# Altium schematic symbol library rev02_1.SCHLIB: 50 symbols
Pins are listed as number, name and electrical type; pins without a type are passive.

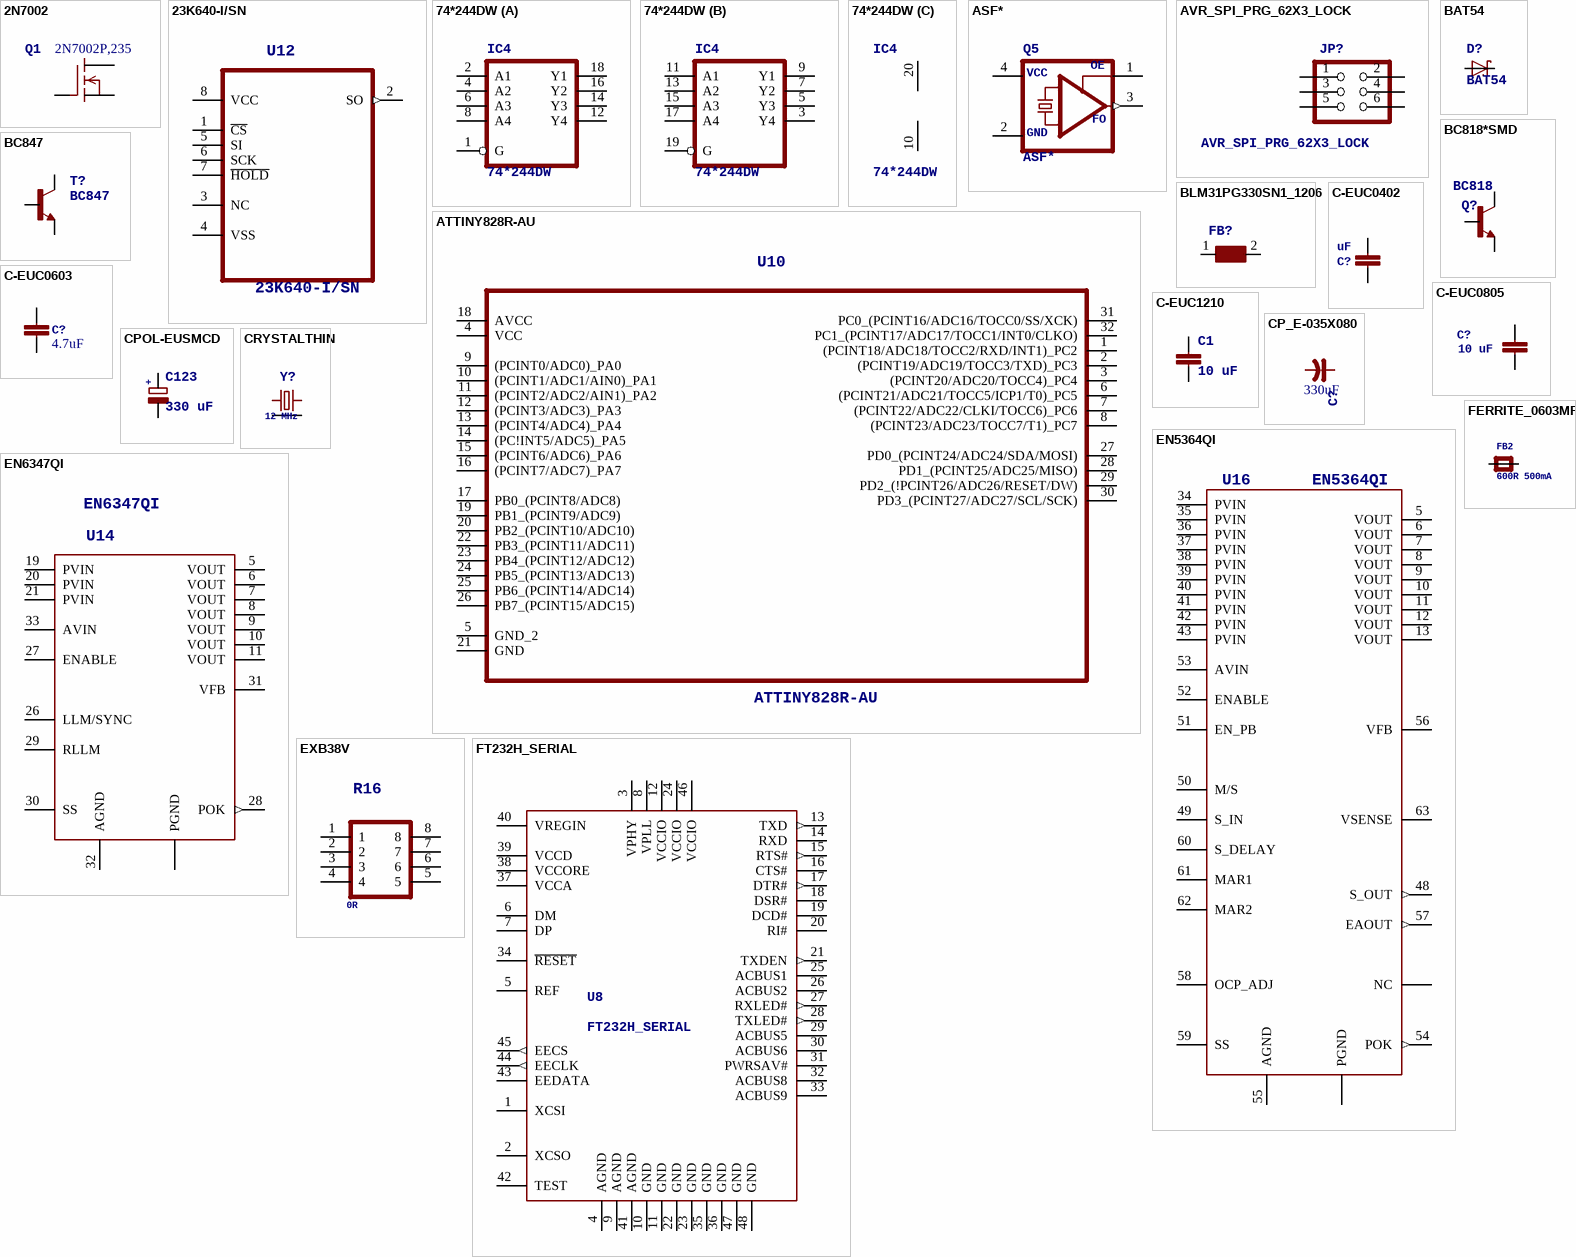
[diagram p0: symbols 2N7002 to FT232H_SERIAL]

## 2N7002
designator Q?, comment 2N7002P,235  >NAME: Q1
OnSemi FET; >VALUE: 2N7002
footprint SOT23
pins: 1 G, 2 S, 3 D

## 23K640-I/SN
designator U?  >NAME: U12  (hidden comment: 23K640-I/SN)
64K SPI Bus Low-Power Serial SRAM,SOIC-8; MPN: 23K640-I/SN; OC_FARNELL: 1695549; OC_NEWARK: 71P4706; PACKAGE: SOIC-8; SUPPLIER: MICROCHIP; >VALUE: 23K640-I/SN
footprint SOIC127P600X175-8N
pins: 1 ~{CS}, 2 SO (out), 3 NC, 4 VSS (power), 5 SI, 6 SCK, 7 ~{HOLD}, 8 VCC (power)

## 74*244DW
designator IC?  >NAME: IC4  (hidden comment: 74*244DW)
Octal <b>BUFFER</b> and <b>LINE DRIVER</b>, 3-state; >VALUE: 74*244DW
footprint SO20W
footprint SO20W
footprint SO20W
part A pins: 1 G, 2 A1, 4 A2, 6 A3, 8 A4, 12 Y4 (hiz), 14 Y3 (hiz), 16 Y2 (hiz), 18 Y1 (hiz)
part B pins: 3 Y4 (hiz), 5 Y3 (hiz), 7 Y2 (hiz), 9 Y1 (hiz), 11 A1, 13 A2, 15 A3, 17 A4, 19 G
part C pins: 10 GND (power), 20 VCC (power)

## ASF*
designator Q?  >NAME: Q5  (hidden comment: ASF*)
<b>CRYSTAL CLOCK OSCILLATORS</b><p> / 5.0 Vdc or 3.3 Vdc - LOW PROFILE ULTRA MINIATURE CERAMIC SURFACE MOUNT<br> / Source: http://www.abracon.com/Oscillators/asf1-L-L1.pdf; MPN: ASFL1-125.000MHZ-EC-T; MF: Abracon Corporation; OC_FARNELL: 1838931; OC_NEWARK: 19M1882; >VALUE: ASF*; GND: GND; VCC: VCC; FO: FO; OE: OE
footprint ASF
pins: 1 OE, 2 GND (power), 3 FO (out), 4 VCC (power)

## ATTINY828R-AU
designator U?  >NAME: U10  (hidden comment: ATTINY828R-AU)
IC, MCU, 8KB, FLASH, 20MHZ, TQFP-32; MPN: ATTINY828R-AU; OC_FARNELL: 2249850; OC_NEWARK: Unknown; PACKAGE: TQFP-32; SUPPLIER: ATMEL; >VALUE: ATTINY828R-AU
footprint QFP80P900X900X120-32N
pins: 1 (PCINT18/ADC18/TOCC2/RXD/INT1)_PC2, 2 (PCINT19/ADC19/TOCC3/TXD)_PC3, 3 (PCINT20/ADC20/TOCC4)_PC4, 4 VCC (power), 5 GND_2, 6 (PCINT21/ADC21/TOCC5/ICP1/T0)_PC5, 7 (PCINT22/ADC22/CLKI/TOCC6)_PC6, 8 (PCINT23/ADC23/TOCC7/T1)_PC7, 9 (PCINT0/ADC0)_PA0, 10 (PCINT1/ADC1/AIN0)_PA1, 11 (PCINT2/ADC2/AIN1)_PA2, 12 (PCINT3/ADC3)_PA3, 13 (PCINT4/ADC4)_PA4, 14 (PC!INT5/ADC5)_PA5, 15 (PCINT6/ADC6)_PA6, 16 (PCINT7/ADC7)_PA7, 17 PB0_(PCINT8/ADC8), 18 AVCC (power), 19 PB1_(PCINT9/ADC9), 20 PB2_(PCINT10/ADC10), 21 GND, 22 PB3_(PCINT11/ADC11), 23 PB4_(PCINT12/ADC12), 24 PB5_(PCINT13/ADC13), 25 PB6_(PCINT14/ADC14), 26 PB7_(PCINT15/ADC15), 27 PD0_(PCINT24/ADC24/SDA/MOSI), 28 PD1_(PCINT25/ADC25/MISO), 29 PD2_(!PCINT26/ADC26/RESET/DW), 30 PD3_(PCINT27/ADC27/SCL/SCK), 31 PC0_(PCINT16/ADC16/TOCC0/SS/XCK), 32 PC1_(PCINT17/ADC17/TOCC1/INT0/CLKO)

## AVR_SPI_PRG_62X3_LOCK
designator JP?
<b>AVR ISP 6 Pin</b> / This is the reduced ISP connector for AVR programming. Common on Arduino. This footprint will take up less PCB space and can be used with a 10-pin to 6-pin adapter such as SKU: BOB-08508 / <b>**Special note about "TEST_POINT" package.</b> The stop mask is on the top side, so if you want your programming test points to be on the bottom of your board, make sure to place this package on the bottom side of the board. This also ensure that the orientation to program from the bottom side will be correct.
footprint 2X3_LOCK
pins: 1, 2, 3, 4, 5, 6

## BAT54
designator D?
<b>Schottky Diodes</b><p> / Source: Fairchild .. BAT54.pdf
footprint SOT23
pins: 1 A, 3 C

## BC818*SMD
designator Q?, comment BC818
<b>NPN Transistor</b>
footprint SOT-23
pins: 1 B, 2 E, 3 C

## BC847
designator T?
<b>NPN TRANSISTOR</b>
footprint SOT23
pins: 1 B, 2 E, 3 C

## BLM31PG330SN1_1206
designator FB?, comment 0  (value not drawn)
footprint 1206
pins: 1, 2

## C-EUC0402
designator C?, comment 0.01 uF
<B>CAPACITOR</B>, European symbol
footprint C0402
pins: 1, 2

## C-EUC0603
designator C?, comment value 4.7uF  (hidden comment: TMK212AB7475KG-T)
0805 CAPACITOR X7R 25V
pins: 1, 2

## C-EUC0805
designator C?, comment 10 uF
<B>CAPACITOR</B>, European symbol
footprint C0805
pins: 1, 2

## C-EUC1210
designator C?, comment >NAME: C1  (hidden comment: 10 uF)
<B>CAPACITOR</B>, European symbol; DIELECTRIC: X7R; RATED_VOLTAGE: 50V; TOLERANCE: 10%; >VALUE: 10 uF
footprint C1210
pins: 1, 2

## CP_E-035X080
designator C?, comment value 330uF  (hidden comment: T520D337M006ATE015)
Kemet Tantalum Capacitor
footprint C_D
pins: 1 +, 2 -

## CPOL-EUSMCD
designator C?, comment >NAME: C123  (hidden comment: 330 uF)
<B>POLARIZED CAPACITOR</B>, European symbol; DIELECTRIC: TANTALUM; RATED_VOLTAGE: 6.3V; TOLERANCE: 10%; +: +; >VALUE: 330 uF
footprint SMC_D
pins: +, -

## CRYSTALTHIN
designator Y?, comment 12 MHz
<p><b>Crystals</b></p> / <p><b>HC49UP</b> - Surface Mount Crystal / <ul> / <li>4.0MHz 18pF +/-30ppm Surface Mount Crystal [Digikey: 535-9857-1-ND]</li> / <li>12.0 MHz Surface Mount Crystal [Digikey: 535-9869-6-ND]</li> / <li>25.0 MHz Surface Mount Crystal [Digikey: 535-9078-1-ND]</li> / </ul> / <p><b>2.5 x 2.0mm</b> - MEMs SMT Crystal / <ul> / <li>16.0 MHz 10pF 20ppm 2.5 x 2.0mm Crystal [Digikey -40-85°C: 535-10923-1-ND]</li> / </ul> / <p><b>3.2 x 2.5mm</b> - MEMs SMT Crystal / <ul> / <li>12.0 MHz 8pF 15ppm 3.2 x 2.5mm Crystal [Digikey: <b>-10-70°C</b>: 644-1047-1-ND <b>-40-125°C</b>: 644-1128-1-ND]</li> / <li>16.0 MHz 8pF 15ppm 3.2 x 2.5mm Crystal [Digikey: <b>-10-70°C</b>: 644-1049-1-ND <b>-40-125°C</b>: 644-1129-2-ND]</li> / <li>16.0 MHz 10pF 10ppm 3.2 x 2.5mm Crystal [Digikey: 644-1100-1-ND]</li> / <li>27.12 MHz 18pF 30ppm 3.2 x 2.5mm Crystal [Digikey: 887-1424-1-ND]</li> / <li>27.12MHz 10pF 10ppm 3.2 x 2.5mm Crystal [Digikey: 887-1329-1-ND]</li> / </ul> / <p><b>4.9 x 1.8mm</b> - MEMs SMT Crystal / <ul> / <li>32.768 KHz 12.5pF 20ppm 4.9 x 1.8mm Crystal [Digikey: SE2415CT-ND]</li> / </ul> / <p><b>8.0 x 3.8mm</b></p> - Surface Mount Crystal / <ul> / <li>32.768kHz 12.5pF 20ppm -40°C-85°C [Digikey: 535-9166-2-ND]</li> / </ul> / <p><b>Cylinder</b> / <ul> / <li>32.768KHz Cylinder Crystal (2x6mm body) [Ex. Digikey: 300-8341-2-ND]</li> / </ul> / </p> / </p>
footprint CRYSTAL_3.2X2.5
pins: 1, 2, 3, 4

## EN5364QI
designator U?  >NAME: U16  (hidden comment: EN5364QI)
6A PowerSoC / Voltage Mode Synchronous Buck PWM DC-DC Converter / With Integrated Inductor; MPN: EN5364QI; OC_FARNELL: 2081142; PACKAGE: QFN; SUPPLIER: ENPIRION; >VALUE: EN5364QI
footprint QFN68 (QFN68_8X11X1.85)
pins: 1 PGND (power), 2 PGND (power) hidden to GND, 3 PGND (power) hidden to GND, 4 PGND (power) hidden to GND, 5 VOUT (power), 6 VOUT (power), 7 VOUT (power), 8 VOUT (power), 9 VOUT (power), 10 VOUT (power), 11 VOUT (power), 12 VOUT (power), 13 VOUT (power), 14 NC, 15 NC hidden, 16 NC hidden, 17 NC hidden, 18 NC hidden, 19 NC hidden, 20 NC hidden, 21 NC hidden, 22 NC hidden, 23 NC hidden, 24 NC hidden, 25 NC hidden, 26 NC hidden, 27 PGND (power) hidden to GND, 28 PGND (power) hidden to GND, 29 PGND (power) hidden to GND, 30 PGND (power) hidden to GND, 31 PGND (power) hidden to GND, 32 PGND (power) hidden to GND, 33 PGND (power) hidden to GND, 34 PVIN (power), 35 PVIN (power), 36 PVIN (power), 37 PVIN (power), 38 PVIN (power), 39 PVIN (power), 40 PVIN (power), 41 PVIN (power), 42 PVIN (power), 43 PVIN (power), 44 NC hidden, 45 NC hidden, 46 NC hidden, 47 NC hidden, 48 S_OUT (out), 49 S_IN, 50 M/S, 51 EN_PB, 52 ENABLE, 53 AVIN (power), 54 POK (out), 55 AGND (power), 56 VFB, 57 EAOUT (out), 58 OCP_ADJ, 59 SS, 60 S_DELAY, 61 MAR1, 62 MAR2, 63 VSENSE, 64 PGND (power) hidden to GND, 65 PGND (power) hidden to GND, 66 PGND (power) hidden to GND, 67 PGND (power) hidden to GND, 68 PGND (power) hidden to GND, PAD69 PGND (power) hidden to GND, PAD70 PGND (power) hidden to GND

## EN6347QI
designator U?  >NAME: U14  (hidden comment: EN6347QI)
3A PowerSoC / Voltage Mode Synchronous PWM Buck with Integrated Inductor; MPN: EN6347QI; OC_FARNELL: 2081146; PACKAGE: QFN; SUPPLIER: ENPIRION; >VALUE: EN6347QI
footprint QFN38 (QFN38_4X7X1.85)
pins: 1 NC hidden, 2 NC hidden, 3 NC hidden, 4 NC hidden, 5 VOUT (power), 6 VOUT (power), 7 VOUT (power), 8 VOUT (power), 9 VOUT (power), 10 VOUT (power), 11 VOUT (power), 12 NC hidden, 13 PGND (power), 14 PGND (power) hidden to GND, 15 PGND (power) hidden to GND, 16 PGND (power) hidden to GND, 17 PGND (power) hidden to GND, 18 PGND (power) hidden to GND, 19 PVIN (power), 20 PVIN (power), 21 PVIN (power), 22 NC hidden, 23 NC hidden, 24 NC hidden, 25 NC hidden, 26 LLM/SYNC, 27 ENABLE, 28 POK (out), 29 RLLM, 30 SS, 31 VFB, 32 AGND (power), 33 AVIN (power), 34 NC hidden, 35 NC hidden, 36 NC hidden, 37 NC hidden, 38 NC hidden, PAD39 PGND (power) hidden to GND

## EXB38V
designator R?, comment value 0R  >NAME: R16  (hidden comment: 330R)
Chip Resistor Array; MPN: EXB38VR000V; POWERRATING: 0.063 W/element; OC_FARNELL: 2060083; OC_NEWARK: 65T9083; PACKAGE: 0603; SUPPLIER: PANASONIC; TOLERANCE: -
footprint RESCAXE80P320X160X60-8N
pins: 1, 2, 3, 4, 5, 6, 7, 8

## FERRITE_0603MP
designator FB?, comment >NAME: FB2  (hidden comment: 600R 500mA)
<p><b>Ferrite Bead</b></p> / <p>0603</p> / <ul> / <li>MMZ1608B121C - 120 Ohm @ 100MHz, 600mA, 0.15 Ohm DC Resistance - Digikey: 445-2164-1-ND</li> / <li>BK1608HW121-T - 120 Ohm, 600mA Ferrite Chip - Digikey: 587-1876-2-ND</li> / </ul> / <p>0805</p> / <ul> / <li>HZ0805B272R-10 - 2.7K Ohm @ 100MHz, 200mA, 0.8 Ohm DC Resistance - Digikey: 240-2504-1-ND (see also Murata BLM21BD272SN1L)</li> / <li>MMZ2012Y152B - 1.5K Ohm @ 100MHz, 500mA, 0.4 Ohm DC Resistance - Digikey: 445-1560-1-ND - Mainly for high frequency (80-400MHz)</li> / <li>MMZ2012R102A - 1K Ohm @ 100MHz, 500mA, 0.3 Ohm DC Resistance - Digikey: 445-1555-2-ND - More general purpose (10-200MHz)</li> / </ul>; >VALUE: 600R 500mA
footprint _0603MP
pins: 1 P$1, 2 P$2

## FT232H_SERIAL
designator U?  >NAME: U8  (hidden comment: FT232H_SERIAL)
INTERFACE, USB - UART/FIFO; OC_FARNELL: 1870924; >VALUE: FT232H_SERIAL
footprint FT2323HL_LQFP48
pins: 1 XCSI, 2 XCSO, 3 VPHY, 4 AGND (power), 5 REF, 6 DM, 7 DP, 8 VPLL, 9 AGND (power), 10 GND (power), 11 GND (power), 12 VCCIO (power), 13 TXD (out), 14 RXD, 15 RTS# (out), 16 CTS#, 17 DTR# (out), 18 DSR#, 19 DCD#, 20 RI#, 21 TXDEN (out), 22 GND (power), 23 GND (power), 24 VCCIO (power), 25 ACBUS1, 26 ACBUS2, 27 RXLED# (out), 28 TXLED# (out), 29 ACBUS5, 30 ACBUS6, 31 PWRSAV#, 32 ACBUS8, 33 ACBUS9, 34 ~{RESET}, 35 GND (power), 36 GND (power), 37 VCCA (power), 38 VCCORE (power), 39 VCCD (power), 40 VREGIN (power), 41 AGND (power), 42 TEST, 43 EEDATA, 44 EECLK (out), 45 EECS (out), 46 VCCIO (power), 47 GND (power), 48 GND (power)

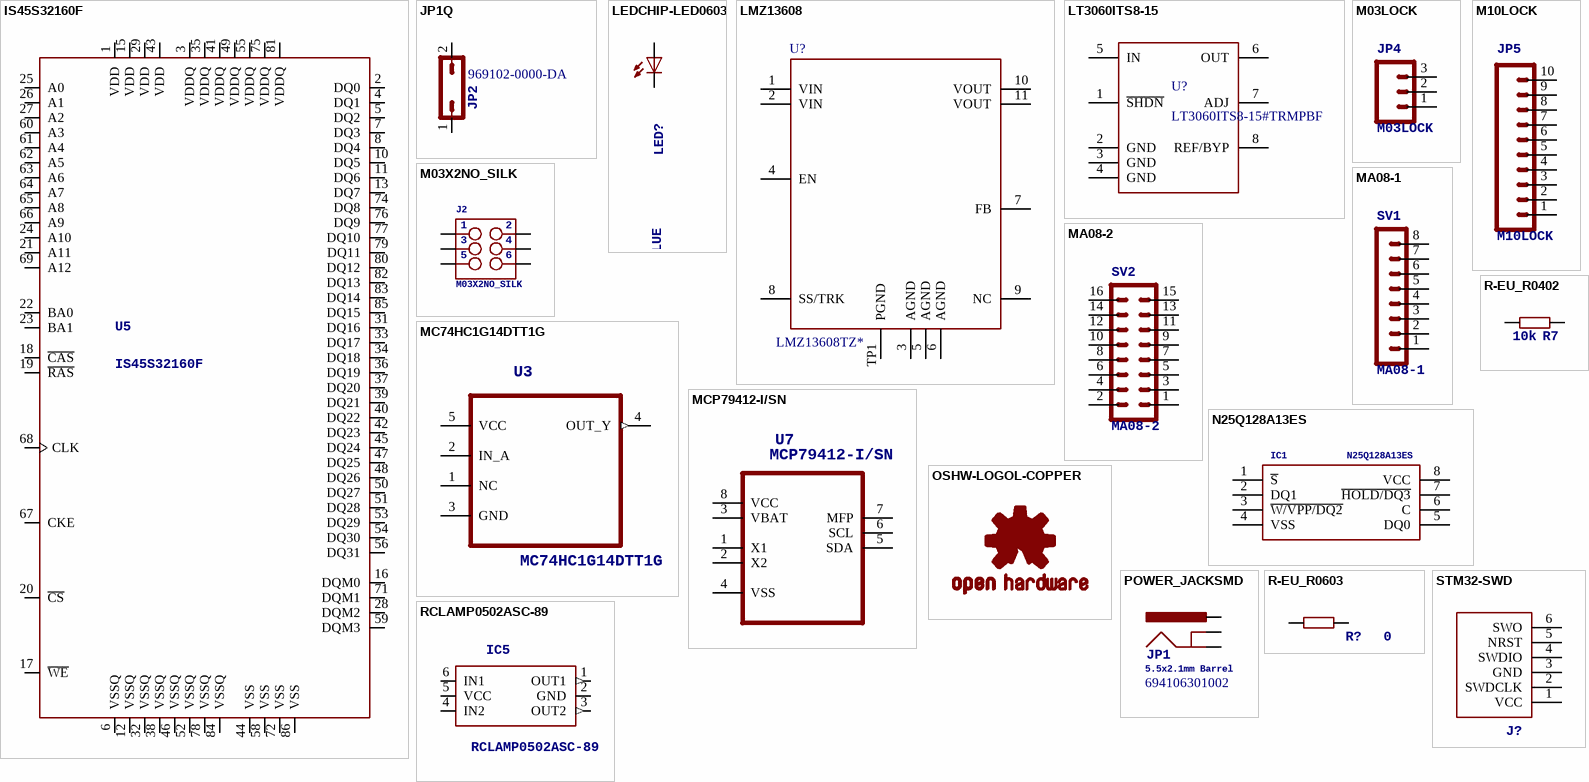
[diagram p1: symbols IS45S32160F to STM32-SWD]

## IS45S32160F
designator U?  >NAME: U5  (hidden comment: IS45S32160F)
16Mx32, 512Mb SDRAM / Clock frequency: 166, 143 MHz; MPN: IS45S32160F; SUPPLIER: ISSI; >VALUE: IS45S32160F
footprint TSOP2-86L
pins: 1 VDD (power), 2 DQ0, 3 VDDQ (power), 4 DQ1, 5 DQ2, 6 VSSQ (power), 7 DQ3, 8 DQ4, 10 DQ5, 11 DQ6, 12 VSSQ (power), 13 DQ7, 15 VDD (power), 16 DQM0, 17 ~{WE}, 18 ~{CAS}, 19 ~{RAS}, 20 ~{CS}, 21 A11, 22 BA0, 23 BA1, 24 A10, 25 A0, 26 A1, 27 A2, 28 DQM2, 29 VDD (power), 31 DQ16, 32 VSSQ (power), 33 DQ17, 34 DQ18, 35 VDDQ (power), 36 DQ19, 37 DQ20, 38 VSSQ (power), 39 DQ21, 40 DQ22, 41 VDDQ (power), 42 DQ23, 43 VDD (power), 44 VSS (power), 45 DQ24, 46 VSSQ (power), 47 DQ25, 48 DQ26, 49 VDDQ (power), 50 DQ27, 51 DQ28, 52 VSSQ (power), 53 DQ29, 54 DQ30, 55 VDDQ (power), 56 DQ31, 58 VSS (power), 59 DQM3, 60 A3, 61 A4, 62 A5, 63 A6, 64 A7, 65 A8, 66 A9, 67 CKE, 68 CLK, 69 A12, 71 DQM1, 72 VSS (power), 74 DQ8, 75 VDDQ (power), 76 DQ9, 77 DQ10, 78 VSSQ (power), 79 DQ11, 80 DQ12, 81 VDDQ (power), 82 DQ13, 83 DQ14, 84 VSSQ (power), 85 DQ15, 86 VSS (power)

## JP1Q
designator JP?, comment 969102-0000-DA  >NAME: JP2
3M JUMPER; >VALUE: JP1Q
footprint JP1
pins: 1, 2

## LEDCHIP-LED0603
designator LED?, comment BLUE
<b>LED</b><p> / <u>OSRAM</u>:<br> / - <u>CHIPLED</u><br> / LG R971, LG N971, LY N971, LG Q971, LY Q971, LO R971, LY R971 / LH N974, LH R974<br> / LS Q976, LO Q976, LY Q976<br> / LO Q996<br> / - <u>Hyper CHIPLED</u><br> / LW Q18S<br> / LB Q993, LB Q99A, LB R99A<br> / - <u>SideLED</u><br> / LS A670, LO A670, LY A670, LG A670, LP A670<br> / LB A673, LV A673, LT A673, LW A673<br> / LH A674<br> / LY A675<br> / LS A676, LA A676, LO A676, LY A676, LW A676<br> / LS A679, LY A679, LG A679<br> / -  <u>Hyper Micro SIDELED®</u><br> / LS Y876, LA Y876, LO Y876, LY Y876<br> / LT Y87S<br> / - <u>SmartLED</u><br> / LW L88C, LW L88S<br> / LB L89C, LB L89S, LG L890<br> / LS L89K, LO L89K, LY L89K<br> / LS L896, LA L896, LO L896, LY L896<br> / - <u>TOPLED</u><br> / LS T670, LO T670, LY T670, LG T670, LP T670<br> / LSG T670, LSP T670, LSY T670, LOP T670, LYG T670<br> / LG T671, LOG T671, LSG T671<br> / LB T673, LV T673, LT T673, LW T673<br> / LH T674<br> / LS T676, LA T676, LO T676, LY T676, LB T676, LH T676, LSB T676, LW T676<br> / LB T67C, LV T67C, LT T67C, LS T67K, LO T67K, LY T67K, LW E67C<br> / LS E67B, LA E67B, LO E67B, LY E67B, LB E67C, LV E67C, LT E67C<br> / LW T67C<br> / LS T679, LY T679, LG T679<br> / LS T770, LO T770, LY T770, LG T770, LP T770<br> / LB T773, LV T773, LT T773, LW T773<br> / LH T774<br> / LS E675, LA E675, LY E675, LS T675<br> / LS T776, LA T776, LO T776, LY T776, LB T776<br> / LHGB T686<br> / LT T68C, LB T68C<br> / - <u>Hyper Mini TOPLED®</u><br> / LB M676<br> / - <u>Mini TOPLED Santana®</u><br> / LG M470<br> / LS M47K, LO M47K, LY M47K / <p> / Source: http://www.osram.convergy.de<p> / <u>LUXEON:</u><br> / - <u>LUMILED®</u><br> / LXK2-PW12-R00, LXK2-PW12-S00, LXK2-PW14-U00, LXK2-PW14-V00<br> / LXK2-PM12-R00, LXK2-PM12-S00, LXK2-PM14-U00<br> / LXK2-PE12-Q00, LXK2-PE12-R00, LXK2-PE12-S00, LXK2-PE14-T00, LXK2-PE14-U00<br> / LXK2-PB12-K00, LXK2-PB12-L00, LXK2-PB12-M00, LXK2-PB14-N00, LXK2-PB14-P00, LXK2-PB14-Q00<br> / LXK2-PR12-L00, LXK2-PR12-M00, LXK2-PR14-Q00, LXK2-PR14-R00<br> / LXK2-PD12-Q00, LXK2-PD12-R00, LXK2-PD12-S00<br> / LXK2-PH12-R00, LXK2-PH12-S00<br> / LXK2-PL12-P00, LXK2-PL12-Q00, LXK2-PL12-R00 / <p> / Source: www.luxeon.com<p> / <u>KINGBRIGHT:</U><p> / KA-3528ASYC<br> / Source: www.kingbright.com
footprint VD_0603 (Chip, 2-Leads, Body 1,6x0,8mm, IPC Medium Density)
pins: 1 A, 2 C

## LMZ13608
designator U?, comment LMZ13608TZ*
8-A SIMPLE SWITCHER® Power Module With 36-V Maximum Input Voltage; MPN: LMZ13608TZ/NOPB; OC_FARNELL: 2492265; PACKAGE: NDY (11); SUPPLIER: Texas Instruments
footprint NDY
pins: 1 VIN (power), 2 VIN (power), 3 AGND (power), 4 EN, 5 AGND (power), 6 AGND (power), 7 FB, 8 SS/TRK, 9 NC, 10 VOUT (power), 11 VOUT (power), TP1 PGND (power)

## LT3060ITS8-15
designator U?, comment LT3060ITS8-15#TRMPBF
Micropower, Low Noise, 100mA LDO, Linear Regulator; SUPPLIER: Linear Technology; MPN: LT3060ITS8-15#TRMPBF; OC_FARNELL: 2471073
footprint TSOT-8-23
pins: 1 ~{SHDN}, 2 GND (power), 3 GND (power), 4 GND (power), 5 IN (power), 6 OUT (power), 7 ADJ, 8 REF/BYP

## M03LOCK
designator JP?  >NAME: JP4  (hidden comment: M03LOCK)
<b>Header 3</b> / Standard 3-pin 0.1" header. Use with straight break away headers (SKU : PRT-00116), right angle break away headers (PRT-00553), swiss pins (PRT-00743), machine pins (PRT-00117), and female headers (PRT-00115). Molex polarized connector foot print use with SKU : PRT-08232 with associated crimp pins and housings.; >VALUE: M03LOCK
footprint 1X03_LOCK
pins: 1, 2, 3

## M03X2NO_SILK
designator J?  >NAME: J2  (hidden comment: M03X2NO_SILK)
2x3 .1" header.<br> / Shrouded, with keying- CONN-10681<br> / SMT- CONN-11415<br> / Pogo pins- HW-11044; >VALUE: M03X2NO_SILK; 1: 1; 2: 2; 3: 3; 4: 4; 5: 5; 6: 6
footprint 2X3-NS
pins: 1, 2, 3, 4, 5, 6

## M10LOCK
designator JP?  >NAME: JP5  (hidden comment: M10LOCK)
<b>Header 10</b> / Standard 10-pin 0.1" header. Use with straight break away headers (SKU : PRT-00116), right angle break away headers (PRT-00553), swiss pins (PRT-00743), machine pins (PRT-00117), and female headers (PRT-00115).; >VALUE: M10LOCK
footprint 1X10_LOCK
pins: 1, 2, 3, 4, 5, 6, 7, 8, 9, 10

## MA08-1
designator SV?  >NAME: SV1  (hidden comment: MA08-1)
<b>PIN HEADER</b>; OC_FARNELL: unknown; OC_NEWARK: unknown; >VALUE: MA08-1
footprint MA08-1
pins: 1, 2, 3, 4, 5, 6, 7, 8

## MA08-2
designator SV?  >NAME: SV2  (hidden comment: MA08-2)
<b>PIN HEADER</b>; OC_FARNELL: unknown; OC_NEWARK: unknown; >VALUE: MA08-2
footprint MA08-2
pins: 1, 2, 3, 4, 5, 6, 7, 8, 9, 10, 11, 12, 13, 14, 15, 16

## MC74HC1G14DTT1G
designator U?  >NAME: U3  (hidden comment: MC74HC1G14DTT1G)
Single Inverter with Schmitt-Trigger Input; MPN: MC74HC1G14DTT1G; OC_FARNELL: 1468757; OC_NEWARK: 71J5593; PACKAGE: SOT-23-5; SUPPLIER: ON SEMICONDUCTOR; >VALUE: MC74HC1G14DTT1G
footprint SOT95P275X110-5N
pins: 1 NC, 2 IN_A, 3 GND, 4 OUT_Y (out), 5 VCC (power)

## MCP79412-I/SN
designator U?  >NAME: U7  (hidden comment: MCP79412-I/SN)
RTCC, I2C, 1K EE, 64B SRAM, 8SOIC; MPN: MCP79412-I/SN; OC_FARNELL: 2103565; OC_NEWARK: 94T5863; PACKAGE: SOIC-8; SUPPLIER: Microchip; >VALUE: MCP79412-I/SN
footprint SOIC127P600X175-8N
pins: 1 X1, 2 X2, 3 VBAT (power), 4 VSS (power), 5 SDA, 6 SCL, 7 MFP, 8 VCC (power)

## N25Q128A13ES
designator IC?  >Name: IC1  (hidden comment: N25Q128A13ES)
OC_DIGIKEY: 557-1562-ND; OC_FARNELL: 2253682; PRICE100_DIGIKEY: 1.30470; PRICE100_FARNELL: 5.10; >Value: N25Q128A13ES
footprint SO08
pins: 1 ~{S}, 2 DQ1, 3 ~{W/VPP/DQ2}, 4 VSS, 5 DQ0, 6 C, 7 ~{HOLD/DQ3}, 8 VCC

## OSHW-LOGOL-COPPER
designator LOGO?  (value not drawn)
<b>Open Source Hardware Logo</b> / as defined here: http://freedomdefined.org/OSHW
footprint OSHW-LOGO-L_COPPER

## POWER_JACKSMD
designator JP?, comment 694106301002  value 5.5x2.1mm Barrel  >Name: JP1
Wurth Power Connector; PROD_ID: CONN-08106; SF_ID: PRT-12748
footprint POWER_JACK_SMD
pins: 1 PWR, 2 GND, 3 GNDBREAK

## R-EU_R0402
designator R?, comment >NAME: R7  (hidden comment: 10k)
<B>RESISTOR</B>, European symbol; TOLERANCE: 5%; >VALUE: 10k
footprint R0402
pins: 1, 2

## R-EU_R0603
designator R?, comment 0
<B>RESISTOR</B>, European symbol
footprint R0603
pins: 1, 2

## RCLAMP0502ASC-89
designator IC?  >NAME: IC5  (hidden comment: RCLAMP0502ASC-89)
USB protective diodes; MFR: SEMTECH; MPN: RCLAMP0502A; OC_FARNELL: 2058982; >VALUE: RCLAMP0502ASC-89
footprint RCLAMP0502A
pins: 1 OUT1 (out), 2 GND (power), 3 OUT2 (out), 4 IN2, 5 VCC (power), 6 IN1

## STM32-SWD
designator J?  (value not drawn)
STM32 SWD connector
footprint 100MIL_THT
pins: 1 VCC (power), 2 SWDCLK, 3 GND (power), 4 SWDIO, 5 NRST, 6 SWO

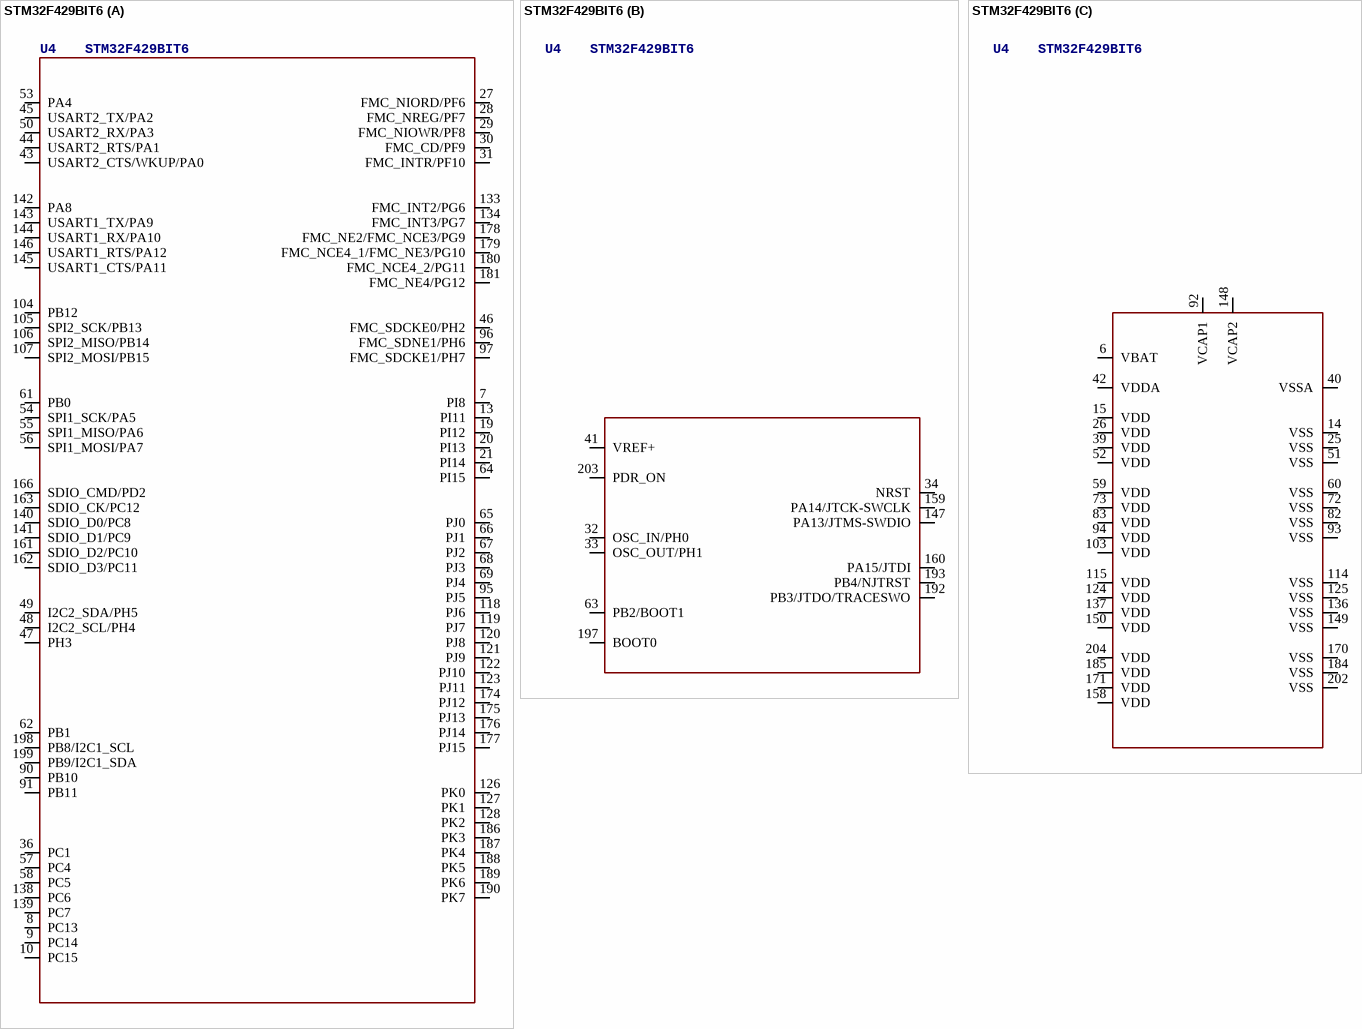
[diagram p2: symbol STM32F429BIT6]

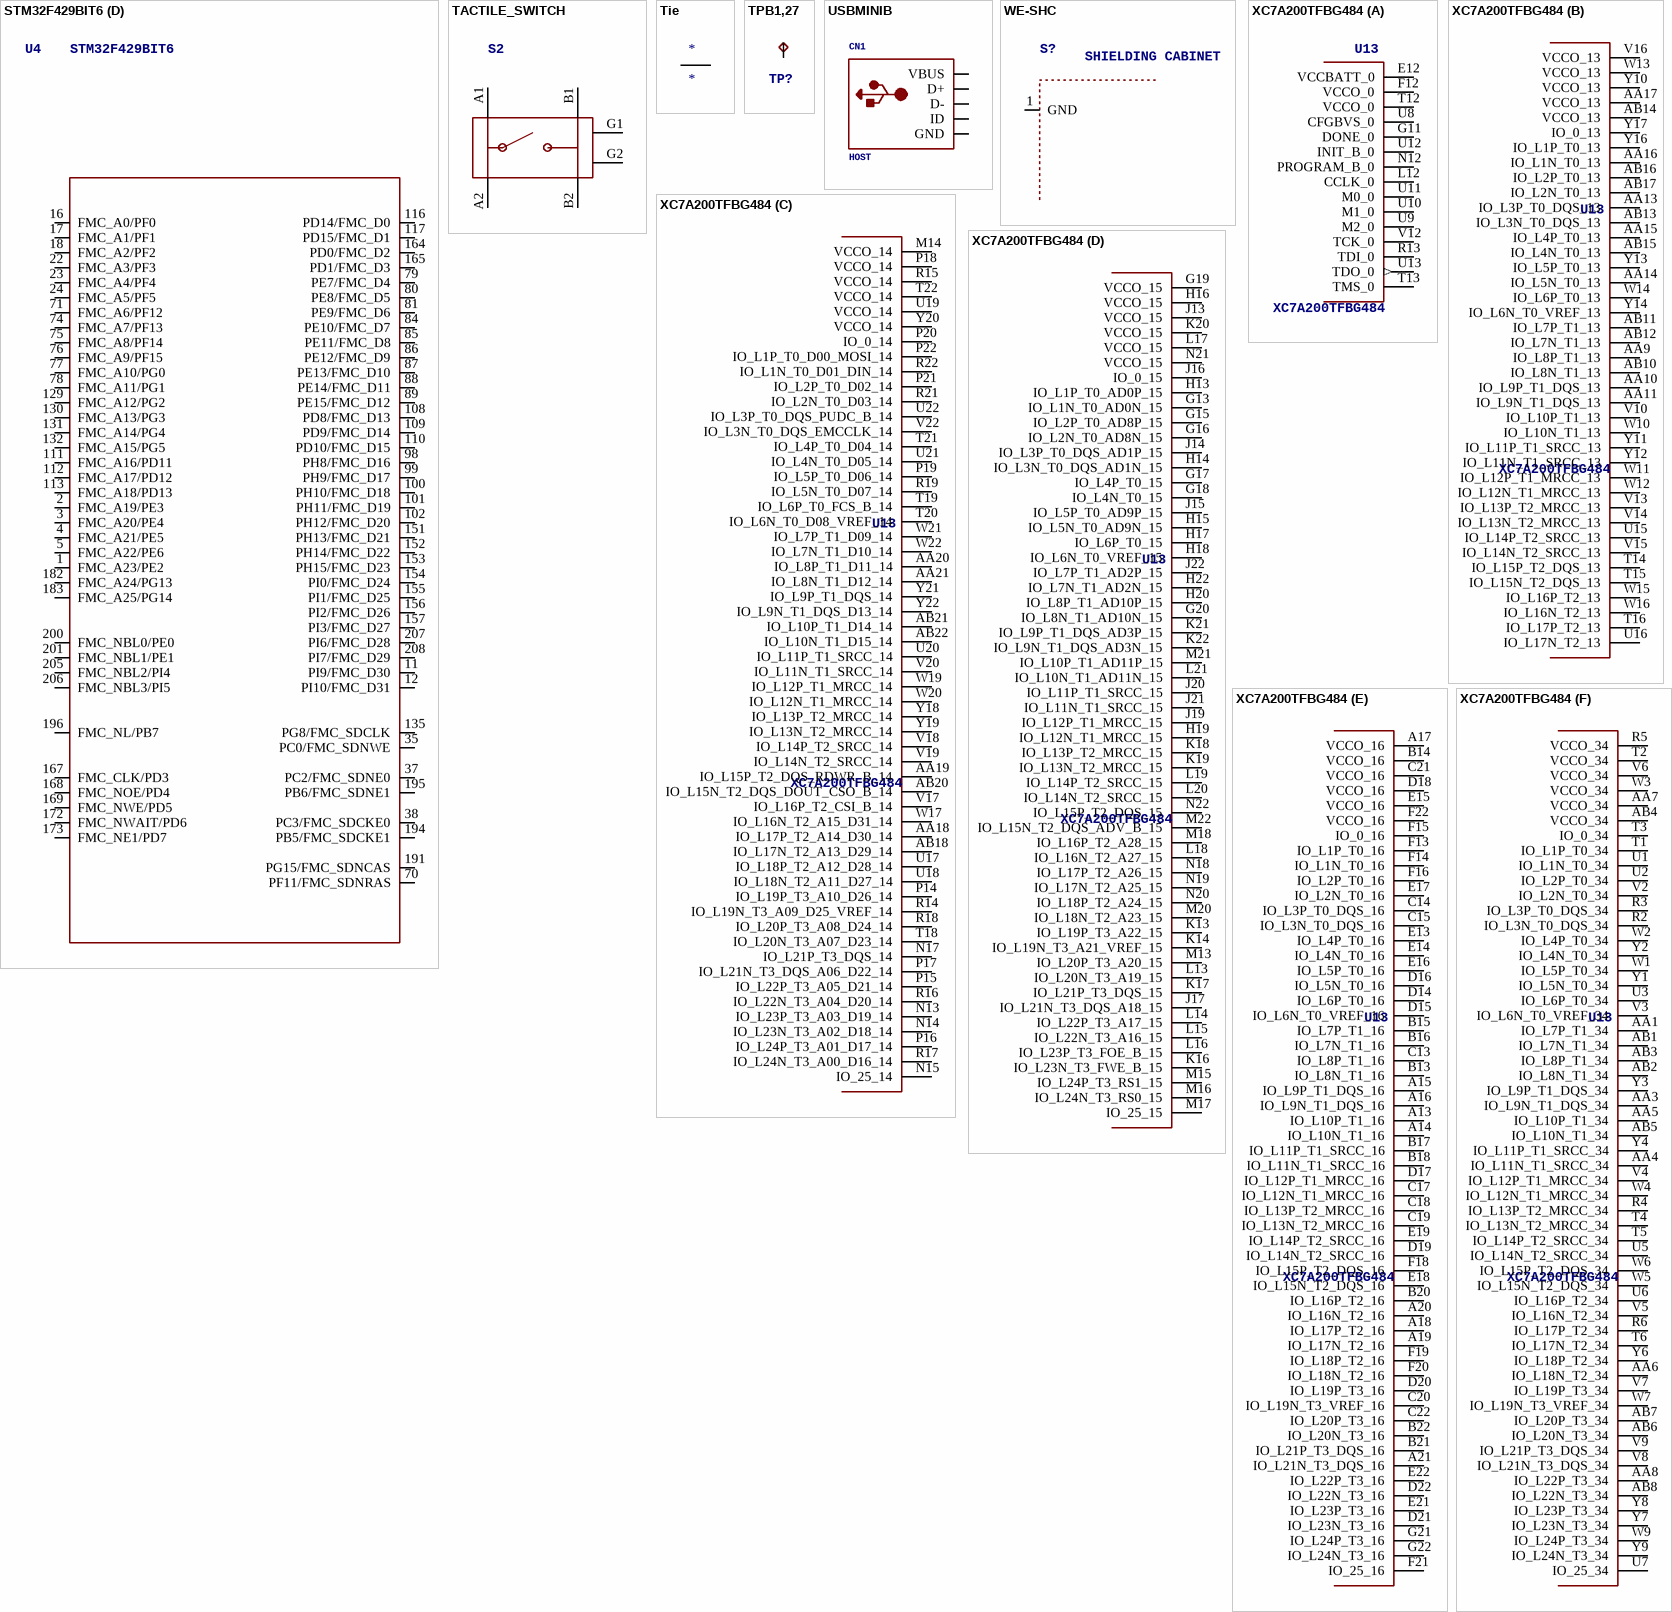
[diagram p3: symbols STM32F429BIT6 to XC7A200TFBG484]

## STM32F429BIT6
designator U?  >NAME: U4  (hidden comment: STM32F429BIT6)
STM32F429 Cortex-M4 CPU / 180 MHz, 256 KB RAM, 2 MB Flash; OC_FARNELL: 2469581; >VALUE: STM32F429BIT6
footprint LQFP-208
footprint LQFP-208
footprint LQFP-208
footprint LQFP-208
part A pins: 7 PI8, 8 PC13, 9 PC14, 10 PC15, 13 PI11, 19 PI12, 20 PI13, 21 PI14, 27 FMC_NIORD/PF6, 28 FMC_NREG/PF7, 29 FMC_NIOWR/PF8, 30 FMC_CD/PF9, 31 FMC_INTR/PF10, 36 PC1, 43 USART2_CTS/WKUP/PA0, 44 USART2_RTS/PA1, 45 USART2_TX/PA2, 46 FMC_SDCKE0/PH2, 47 PH3, 48 I2C2_SCL/PH4, 49 I2C2_SDA/PH5, 50 USART2_RX/PA3, 53 PA4, 54 SPI1_SCK/PA5, 55 SPI1_MISO/PA6, 56 SPI1_MOSI/PA7, 57 PC4, 58 PC5, 61 PB0, 62 PB1, 64 PI15, 65 PJ0, 66 PJ1, 67 PJ2, 68 PJ3, 69 PJ4, 90 PB10, 91 PB11, 95 PJ5, 96 FMC_SDNE1/PH6, 97 FMC_SDCKE1/PH7, 104 PB12, 105 SPI2_SCK/PB13, 106 SPI2_MISO/PB14, 107 SPI2_MOSI/PB15, 118 PJ6, 119 PJ7, 120 PJ8, 121 PJ9, 122 PJ10, 123 PJ11, 126 PK0, 127 PK1, 128 PK2, 133 FMC_INT2/PG6, 134 FMC_INT3/PG7, 138 PC6, 139 PC7, 140 SDIO_D0/PC8, 141 SDIO_D1/PC9, 142 PA8, 143 USART1_TX/PA9, 144 USART1_RX/PA10, 145 USART1_CTS/PA11, 146 USART1_RTS/PA12, 161 SDIO_D2/PC10, 162 SDIO_D3/PC11, 163 SDIO_CK/PC12, 166 SDIO_CMD/PD2, 174 PJ12, 175 PJ13, 176 PJ14, 177 PJ15, 178 FMC_NE2/FMC_NCE3/PG9, 179 FMC_NCE4_1/FMC_NE3/PG10, 180 FMC_NCE4_2/PG11, 181 FMC_NE4/PG12, 186 PK3, 187 PK4, 188 PK5, 189 PK6, 190 PK7, 198 PB8/I2C1_SCL, 199 PB9/I2C1_SDA
part B pins: 32 OSC_IN/PH0, 33 OSC_OUT/PH1, 34 NRST, 41 VREF+ (power), 63 PB2/BOOT1, 147 PA13/JTMS-SWDIO, 159 PA14/JTCK-SWCLK, 160 PA15/JTDI, 192 PB3/JTDO/TRACESWO, 193 PB4/NJTRST, 197 BOOT0, 203 PDR_ON
part C pins: 6 VBAT (power), 14 VSS (power), 15 VDD (power), 25 VSS (power), 26 VDD (power), 39 VDD (power), 40 VSSA (power), 42 VDDA (power), 51 VSS (power), 52 VDD (power), 59 VDD (power), 60 VSS (power), 72 VSS (power), 73 VDD (power), 82 VSS (power), 83 VDD (power), 92 VCAP1, 93 VSS (power), 94 VDD (power), 103 VDD (power), 114 VSS (power), 115 VDD (power), 124 VDD (power), 125 VSS (power), 136 VSS (power), 137 VDD (power), 148 VCAP2, 149 VSS (power), 150 VDD (power), 158 VDD (power), 170 VSS (power), 171 VDD (power), 184 VSS (power), 185 VDD (power), 202 VSS (power), 204 VDD (power)
part D pins: 1 FMC_A23/PE2, 2 FMC_A19/PE3, 3 FMC_A20/PE4, 4 FMC_A21/PE5, 5 FMC_A22/PE6, 11 PI9/FMC_D30, 12 PI10/FMC_D31, 16 FMC_A0/PF0, 17 FMC_A1/PF1, 18 FMC_A2/PF2, 22 FMC_A3/PF3, 23 FMC_A4/PF4, 24 FMC_A5/PF5, 35 PC0/FMC_SDNWE, 37 PC2/FMC_SDNE0, 38 PC3/FMC_SDCKE0, 70 PF11/FMC_SDNRAS, 71 FMC_A6/PF12, 74 FMC_A7/PF13, 75 FMC_A8/PF14, 76 FMC_A9/PF15, 77 FMC_A10/PG0, 78 FMC_A11/PG1, 79 PE7/FMC_D4, 80 PE8/FMC_D5, 81 PE9/FMC_D6, 84 PE10/FMC_D7, 85 PE11/FMC_D8, 86 PE12/FMC_D9, 87 PE13/FMC_D10, 88 PE14/FMC_D11, 89 PE15/FMC_D12, 98 PH8/FMC_D16, 99 PH9/FMC_D17, 100 PH10/FMC_D18, 101 PH11/FMC_D19, 102 PH12/FMC_D20, 108 PD8/FMC_D13, 109 PD9/FMC_D14, 110 PD10/FMC_D15, 111 FMC_A16/PD11, 112 FMC_A17/PD12, 113 FMC_A18/PD13, 116 PD14/FMC_D0, 117 PD15/FMC_D1, 129 FMC_A12/PG2, 130 FMC_A13/PG3, 131 FMC_A14/PG4, 132 FMC_A15/PG5, 135 PG8/FMC_SDCLK, 151 PH13/FMC_D21, 152 PH14/FMC_D22, 153 PH15/FMC_D23, 154 PI0/FMC_D24, 155 PI1/FMC_D25, 156 PI2/FMC_D26, 157 PI3/FMC_D27, 164 PD0/FMC_D2, 165 PD1/FMC_D3, 167 FMC_CLK/PD3, 168 FMC_NOE/PD4, 169 FMC_NWE/PD5, 172 FMC_NWAIT/PD6, 173 FMC_NE1/PD7, 182 FMC_A24/PG13, 183 FMC_A25/PG14, 191 PG15/FMC_SDNCAS, 194 PB5/FMC_SDCKE1, 195 PB6/FMC_SDNE1, 196 FMC_NL/PB7, 200 FMC_NBL0/PE0, 201 FMC_NBL1/PE1, 205 FMC_NBL2/PI4, 206 FMC_NBL3/PI5, 207 PI6/FMC_D28, 208 PI7/FMC_D29

## TACTILE_SWITCH
designator S?  >NAME: S2  (hidden comment: TACTILE_SWITCH)
OC_FARNELL: 2425618
footprint TACTILE_SWITCH
pins: A1, A2, B1, B2, G1 (power), G2 (power)

## Tie
designator *
footprint Tie (AGND to GND connector)
pins: 1, 2

## TPB1,27
designator TP?  (value not drawn)
<b>Test pad</b>
footprint B1,27
pins: TP

## USBMINIB
designator CN?, comment >NAME: CN1  (hidden comment: HOST)
<p><b>USB Connectors</b></p> / <b>USBMINIB</b> - Surface Mount Female Mini-B USB Connector 4UConnector: 06564</p> / <p>By microbuilder.eu</p> / Thru-hole RA Female Mini-B USB Connector 4UConnector: 18732</p> / <p>By ladyada.net</p>; >VALUE: HOST
footprint USB-MINIB
pins: D+, D-, GND (power), ID, VBUS (power)

## WE-SHC
designator S?, comment SHIELDING CABINET
WE-SHC Shielding cabinet
footprint WE-SHC_36103205_NO_CREAM
pins: 1 GND (power)

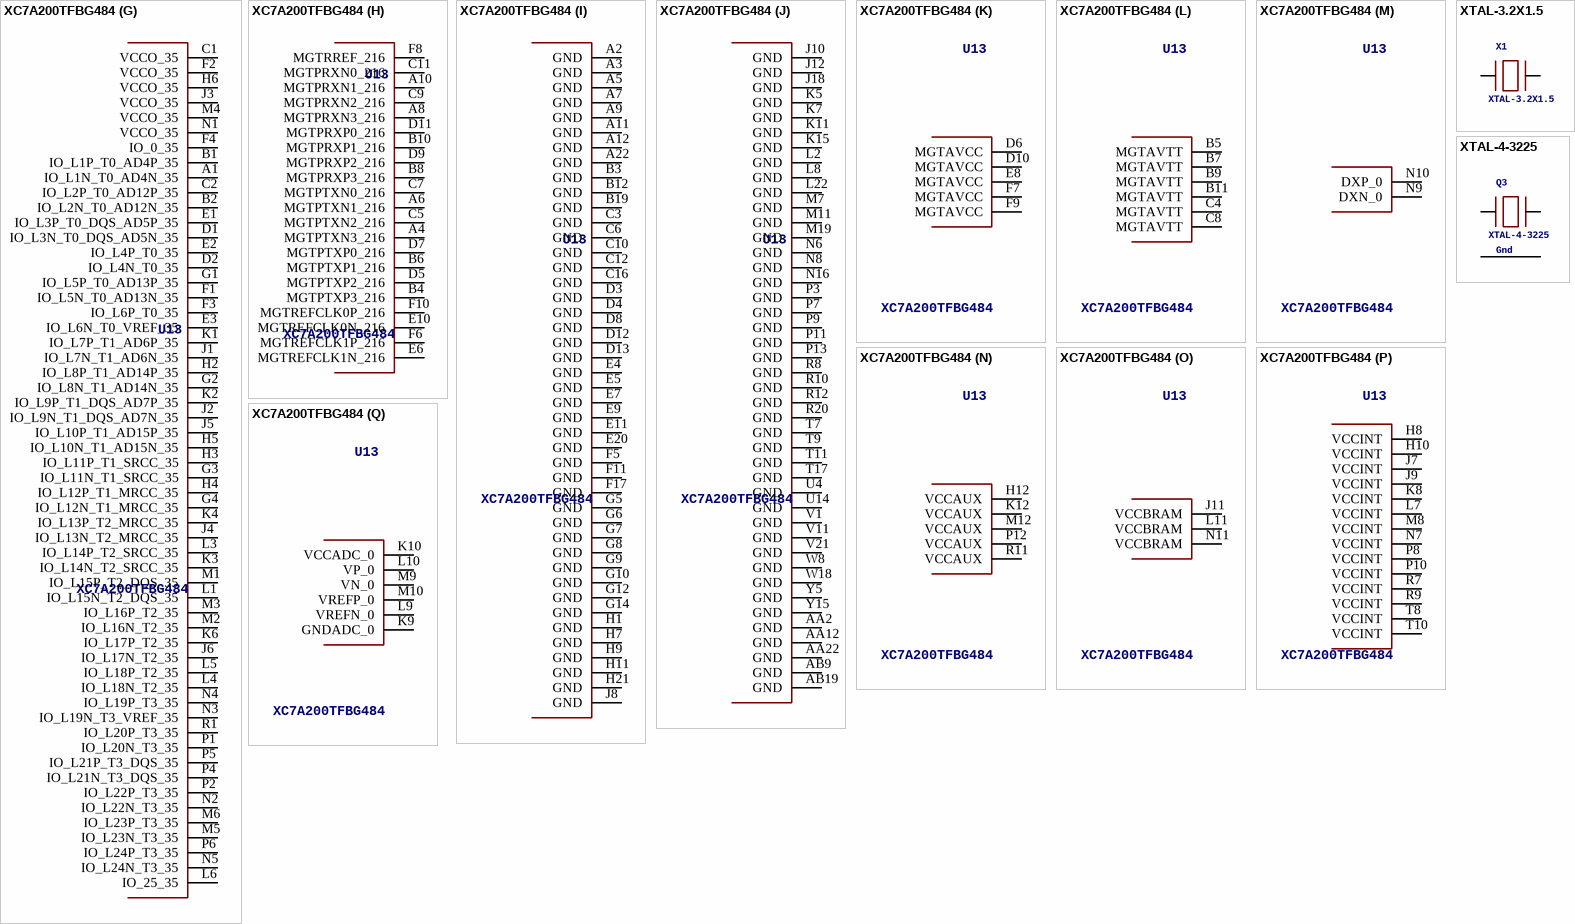
[diagram p4: symbols XC7A200TFBG484 to XTAL-4-3225]

## XC7A200TFBG484
designator U?  >NAME: U13  (hidden comment: XC7A200TFBG484)
Xilinx FPGA: XC7A200TFBG484; MPN: XC7A200T-1FBG484C; MFR: Xilinx; OC_DIGIKEY: 122-1871-ND; >VALUE: XC7A200TFBG484
footprint FF484
footprint FF484
footprint FF484
footprint FF484
footprint FF484
footprint FF484
footprint FF484
footprint FF484
footprint FF484
footprint FF484
footprint FF484
footprint FF484
footprint FF484
footprint FF484
footprint FF484
footprint FF484
footprint FF484
part A pins: E12 VCCBATT_0, F12 VCCO_0, G11 DONE_0, L12 CCLK_0, N12 PROGRAM_B_0, R13 TDI_0, T12 VCCO_0, T13 TMS_0, U8 CFGBVS_0, U9 M2_0, U10 M1_0, U11 M0_0, U12 INIT_B_0 (oc), U13 TDO_0 (out), V12 TCK_0
part B pins: AA9 IO_L8P_T1_13, AA10 IO_L9P_T1_DQS_13, AA11 IO_L9N_T1_DQS_13, AA13 IO_L3P_T0_DQS_13, AA14 IO_L5N_T0_13, AA15 IO_L4P_T0_13, AA16 IO_L1N_T0_13, AA17 VCCO_13, AB10 IO_L8N_T1_13, AB11 IO_L7P_T1_13, AB12 IO_L7N_T1_13, AB13 IO_L3N_T0_DQS_13, AB14 VCCO_13, AB15 IO_L4N_T0_13, AB16 IO_L2P_T0_13, AB17 IO_L2N_T0_13, T14 IO_L15P_T2_DQS_13, T15 IO_L15N_T2_DQS_13, T16 IO_L17P_T2_13, U15 IO_L14P_T2_SRCC_13, U16 IO_L17N_T2_13, V10 IO_L10P_T1_13, V13 IO_L13P_T2_MRCC_13, V14 IO_L13N_T2_MRCC_13, V15 IO_L14N_T2_SRCC_13, V16 VCCO_13, W10 IO_L10N_T1_13, W11 IO_L12P_T1_MRCC_13, W12 IO_L12N_T1_MRCC_13, W13 VCCO_13, W14 IO_L6P_T0_13, W15 IO_L16P_T2_13, W16 IO_L16N_T2_13, Y10 VCCO_13, Y11 IO_L11P_T1_SRCC_13, Y12 IO_L11N_T1_SRCC_13, Y13 IO_L5P_T0_13, Y14 IO_L6N_T0_VREF_13, Y16 IO_L1P_T0_13, Y17 IO_0_13
part C pins: AA18 IO_L17P_T2_A14_D30_14, AA19 IO_L15P_T2_DQS_RDWR_B_14, AA20 IO_L8P_T1_D11_14, AA21 IO_L8N_T1_D12_14, AB18 IO_L17N_T2_A13_D29_14, AB20 IO_L15N_T2_DQS_DOUT_CSO_B_14, AB21 IO_L10P_T1_D14_14, AB22 IO_L10N_T1_D15_14, M14 VCCO_14, N13 IO_L23P_T3_A03_D19_14, N14 IO_L23N_T3_A02_D18_14, N15 IO_25_14, N17 IO_L21P_T3_DQS_14, P14 IO_L19P_T3_A10_D26_14, P15 IO_L22P_T3_A05_D21_14, P16 IO_L24P_T3_A01_D17_14, P17 IO_L21N_T3_DQS_A06_D22_14, P18 VCCO_14, P19 IO_L5P_T0_D06_14, P20 IO_0_14, P21 IO_L2P_T0_D02_14, P22 IO_L1P_T0_D00_MOSI_14, R14 IO_L19N_T3_A09_D25_VREF_14, R15 VCCO_14, R16 IO_L22N_T3_A04_D20_14, R17 IO_L24N_T3_A00_D16_14, R18 IO_L20P_T3_A08_D24_14, R19 IO_L5N_T0_D07_14, R21 IO_L2N_T0_D03_14, R22 IO_L1N_T0_D01_DIN_14, T18 IO_L20N_T3_A07_D23_14, T19 IO_L6P_T0_FCS_B_14, T20 IO_L6N_T0_D08_VREF_14, T21 IO_L4P_T0_D04_14, T22 VCCO_14, U17 IO_L18P_T2_A12_D28_14, U18 IO_L18N_T2_A11_D27_14, U19 VCCO_14, U20 IO_L11P_T1_SRCC_14, U21 IO_L4N_T0_D05_14, U22 IO_L3P_T0_DQS_PUDC_B_14, V17 IO_L16P_T2_CSI_B_14, V18 IO_L14P_T2_SRCC_14, V19 IO_L14N_T2_SRCC_14, V20 IO_L11N_T1_SRCC_14, V22 IO_L3N_T0_DQS_EMCCLK_14, W17 IO_L16N_T2_A15_D31_14, W19 IO_L12P_T1_MRCC_14, W20 IO_L12N_T1_MRCC_14, W21 IO_L7P_T1_D09_14, W22 IO_L7N_T1_D10_14, Y18 IO_L13P_T2_MRCC_14, Y19 IO_L13N_T2_MRCC_14, Y20 VCCO_14, Y21 IO_L9P_T1_DQS_14, Y22 IO_L9N_T1_DQS_D13_14
part D pins: G13 IO_L1N_T0_AD0N_15, G15 IO_L2P_T0_AD8P_15, G16 IO_L2N_T0_AD8N_15, G17 IO_L4P_T0_15, G18 IO_L4N_T0_15, G19 VCCO_15, G20 IO_L8N_T1_AD10N_15, H13 IO_L1P_T0_AD0P_15, H14 IO_L3N_T0_DQS_AD1N_15, H15 IO_L5N_T0_AD9N_15, H16 VCCO_15, H17 IO_L6P_T0_15, H18 IO_L6N_T0_VREF_15, H19 IO_L12N_T1_MRCC_15, H20 IO_L8P_T1_AD10P_15, H22 IO_L7N_T1_AD2N_15, J13 VCCO_15, J14 IO_L3P_T0_DQS_AD1P_15, J15 IO_L5P_T0_AD9P_15, J16 IO_0_15, J17 IO_L21N_T3_DQS_A18_15, J19 IO_L12P_T1_MRCC_15, J20 IO_L11P_T1_SRCC_15, J21 IO_L11N_T1_SRCC_15, J22 IO_L7P_T1_AD2P_15, K13 IO_L19P_T3_A22_15, K14 IO_L19N_T3_A21_VREF_15, K16 IO_L23N_T3_FWE_B_15, K17 IO_L21P_T3_DQS_15, K18 IO_L13P_T2_MRCC_15, K19 IO_L13N_T2_MRCC_15, K20 VCCO_15, K21 IO_L9P_T1_DQS_AD3P_15, K22 IO_L9N_T1_DQS_AD3N_15, L13 IO_L20N_T3_A19_15, L14 IO_L22P_T3_A17_15, L15 IO_L22N_T3_A16_15, L16 IO_L23P_T3_FOE_B_15, L17 VCCO_15, L18 IO_L16N_T2_A27_15, L19 IO_L14P_T2_SRCC_15, L20 IO_L14N_T2_SRCC_15, L21 IO_L10N_T1_AD11N_15, M13 IO_L20P_T3_A20_15, M15 IO_L24P_T3_RS1_15, M16 IO_L24N_T3_RS0_15, M17 IO_25_15, M18 IO_L16P_T2_A28_15, M20 IO_L18N_T2_A23_15, M21 IO_L10P_T1_AD11P_15, M22 IO_L15N_T2_DQS_ADV_B_15, N18 IO_L17P_T2_A26_15, N19 IO_L17N_T2_A25_15, N20 IO_L18P_T2_A24_15, N21 VCCO_15, N22 IO_L15P_T2_DQS_15
part E pins: A13 IO_L10P_T1_16, A14 IO_L10N_T1_16, A15 IO_L9P_T1_DQS_16, A16 IO_L9N_T1_DQS_16, A17 VCCO_16, A18 IO_L17P_T2_16, A19 IO_L17N_T2_16, A20 IO_L16N_T2_16, A21 IO_L21N_T3_DQS_16, B13 IO_L8N_T1_16, B14 VCCO_16, B15 IO_L7P_T1_16, B16 IO_L7N_T1_16, B17 IO_L11P_T1_SRCC_16, B18 IO_L11N_T1_SRCC_16, B20 IO_L16P_T2_16, B21 IO_L21P_T3_DQS_16, B22 IO_L20N_T3_16, C13 IO_L8P_T1_16, C14 IO_L3P_T0_DQS_16, C15 IO_L3N_T0_DQS_16, C17 IO_L12N_T1_MRCC_16, C18 IO_L13P_T2_MRCC_16, C19 IO_L13N_T2_MRCC_16, C20 IO_L19N_T3_VREF_16, C21 VCCO_16, C22 IO_L20P_T3_16, D14 IO_L6P_T0_16, D15 IO_L6N_T0_VREF_16, D16 IO_L5N_T0_16, D17 IO_L12P_T1_MRCC_16, D18 VCCO_16, D19 IO_L14N_T2_SRCC_16, D20 IO_L19P_T3_16, D21 IO_L23N_T3_16, D22 IO_L22N_T3_16, E13 IO_L4P_T0_16, E14 IO_L4N_T0_16, E15 VCCO_16, E16 IO_L5P_T0_16, E17 IO_L2N_T0_16, E18 IO_L15N_T2_DQS_16, E19 IO_L14P_T2_SRCC_16, E21 IO_L23P_T3_16, E22 IO_L22P_T3_16, F13 IO_L1P_T0_16, F14 IO_L1N_T0_16, F15 IO_0_16, F16 IO_L2P_T0_16, F18 IO_L15P_T2_DQS_16, F19 IO_L18P_T2_16, F20 IO_L18N_T2_16, F21 IO_25_16, F22 VCCO_16, G21 IO_L24P_T3_16, G22 IO_L24N_T3_16
part F pins: AA1 IO_L7P_T1_34, AA3 IO_L9N_T1_DQS_34, AA4 IO_L11N_T1_SRCC_34, AA5 IO_L10P_T1_34, AA6 IO_L18N_T2_34, AA7 VCCO_34, AA8 IO_L22P_T3_34, AB1 IO_L7N_T1_34, AB2 IO_L8N_T1_34, AB3 IO_L8P_T1_34, AB4 VCCO_34, AB5 IO_L10N_T1_34, AB6 IO_L20N_T3_34, AB7 IO_L20P_T3_34, AB8 IO_L22N_T3_34, R2 IO_L3N_T0_DQS_34, R3 IO_L3P_T0_DQS_34, R4 IO_L13P_T2_MRCC_34, R5 VCCO_34, R6 IO_L17P_T2_34, T1 IO_L1P_T0_34, T2 VCCO_34, T3 IO_0_34, T4 IO_L13N_T2_MRCC_34, T5 IO_L14P_T2_SRCC_34, T6 IO_L17N_T2_34, U1 IO_L1N_T0_34, U2 IO_L2P_T0_34, U3 IO_L6P_T0_34, U5 IO_L14N_T2_SRCC_34, U6 IO_L16P_T2_34, U7 IO_25_34, V2 IO_L2N_T0_34, V3 IO_L6N_T0_VREF_34, V4 IO_L12P_T1_MRCC_34, V5 IO_L16N_T2_34, V6 VCCO_34, V7 IO_L19P_T3_34, V8 IO_L21N_T3_DQS_34, V9 IO_L21P_T3_DQS_34, W1 IO_L5P_T0_34, W2 IO_L4P_T0_34, W3 VCCO_34, W4 IO_L12N_T1_MRCC_34, W5 IO_L15N_T2_DQS_34, W6 IO_L15P_T2_DQS_34, W7 IO_L19N_T3_VREF_34, W9 IO_L24P_T3_34, Y1 IO_L5N_T0_34, Y2 IO_L4N_T0_34, Y3 IO_L9P_T1_DQS_34, Y4 IO_L11P_T1_SRCC_34, Y6 IO_L18P_T2_34, Y7 IO_L23N_T3_34, Y8 IO_L23P_T3_34, Y9 IO_L24N_T3_34
part G pins: A1 IO_L1N_T0_AD4N_35, B1 IO_L1P_T0_AD4P_35, B2 IO_L2N_T0_AD12N_35, C1 VCCO_35, C2 IO_L2P_T0_AD12P_35, D1 IO_L3N_T0_DQS_AD5N_35, D2 IO_L4N_T0_35, E1 IO_L3P_T0_DQS_AD5P_35, E2 IO_L4P_T0_35, E3 IO_L6N_T0_VREF_35, F1 IO_L5N_T0_AD13N_35, F2 VCCO_35, F3 IO_L6P_T0_35, F4 IO_0_35, G1 IO_L5P_T0_AD13P_35, G2 IO_L8N_T1_AD14N_35, G3 IO_L11N_T1_SRCC_35, G4 IO_L12N_T1_MRCC_35, H2 IO_L8P_T1_AD14P_35, H3 IO_L11P_T1_SRCC_35, H4 IO_L12P_T1_MRCC_35, H5 IO_L10N_T1_AD15N_35, H6 VCCO_35, J1 IO_L7N_T1_AD6N_35, J2 IO_L9N_T1_DQS_AD7N_35, J3 VCCO_35, J4 IO_L13N_T2_MRCC_35, J5 IO_L10P_T1_AD15P_35, J6 IO_L17N_T2_35, K1 IO_L7P_T1_AD6P_35, K2 IO_L9P_T1_DQS_AD7P_35, K3 IO_L14N_T2_SRCC_35, K4 IO_L13P_T2_MRCC_35, K6 IO_L17P_T2_35, L1 IO_L15N_T2_DQS_35, L3 IO_L14P_T2_SRCC_35, L4 IO_L18N_T2_35, L5 IO_L18P_T2_35, L6 IO_25_35, M1 IO_L15P_T2_DQS_35, M2 IO_L16N_T2_35, M3 IO_L16P_T2_35, M4 VCCO_35, M5 IO_L23N_T3_35, M6 IO_L23P_T3_35, N1 VCCO_35, N2 IO_L22N_T3_35, N3 IO_L19N_T3_VREF_35, N4 IO_L19P_T3_35, N5 IO_L24N_T3_35, P1 IO_L20N_T3_35, P2 IO_L22P_T3_35, P4 IO_L21N_T3_DQS_35, P5 IO_L21P_T3_DQS_35, P6 IO_L24P_T3_35, R1 IO_L20P_T3_35
part H pins: A4 MGTPTXN3_216, A6 MGTPTXN1_216, A8 MGTPRXN3_216, A10 MGTPRXN1_216, B4 MGTPTXP3_216, B6 MGTPTXP1_216, B8 MGTPRXP3_216, B10 MGTPRXP1_216, C5 MGTPTXN2_216, C7 MGTPTXN0_216, C9 MGTPRXN2_216, C11 MGTPRXN0_216, D5 MGTPTXP2_216, D7 MGTPTXP0_216, D9 MGTPRXP2_216, D11 MGTPRXP0_216, E6 MGTREFCLK1N_216, E10 MGTREFCLK0N_216, F6 MGTREFCLK1P_216, F8 MGTRREF_216, F10 MGTREFCLK0P_216
part I pins: A2 GND (power), A3 GND (power), A5 GND (power), A7 GND (power), A9 GND (power), A11 GND (power), A12 GND (power), A22 GND (power), B3 GND (power), B12 GND (power), B19 GND (power), C3 GND (power), C6 GND (power), C10 GND (power), C12 GND (power), C16 GND (power), D3 GND (power), D4 GND (power), D8 GND (power), D12 GND (power), D13 GND (power), E4 GND (power), E5 GND (power), E7 GND (power), E9 GND (power), E11 GND (power), E20 GND (power), F5 GND (power), F11 GND (power), F17 GND (power), G5 GND (power), G6 GND (power), G7 GND (power), G8 GND (power), G9 GND (power), G10 GND (power), G12 GND (power), G14 GND (power), H1 GND (power), H7 GND (power), H9 GND (power), H11 GND (power), H21 GND (power), J8 GND (power)
part J pins: AA2 GND (power), AA12 GND (power), AA22 GND (power), AB9 GND (power), AB19 GND (power), J10 GND (power), J12 GND (power), J18 GND (power), K5 GND (power), K7 GND (power), K11 GND (power), K15 GND (power), L2 GND (power), L8 GND (power), L22 GND (power), M7 GND (power), M11 GND (power), M19 GND (power), N6 GND (power), N8 GND (power), N16 GND (power), P3 GND (power), P7 GND (power), P9 GND (power), P11 GND (power), P13 GND (power), R8 GND (power), R10 GND (power), R12 GND (power), R20 GND (power), T7 GND (power), T9 GND (power), T11 GND (power), T17 GND (power), U4 GND (power), U14 GND (power), V1 GND (power), V11 GND (power), V21 GND (power), W8 GND (power), W18 GND (power), Y5 GND (power), Y15 GND (power)
part K pins: D6 MGTAVCC, D10 MGTAVCC, E8 MGTAVCC, F7 MGTAVCC, F9 MGTAVCC
part L pins: B5 MGTAVTT, B7 MGTAVTT, B9 MGTAVTT, B11 MGTAVTT, C4 MGTAVTT, C8 MGTAVTT
part M pins: N9 DXN_0, N10 DXP_0
part N pins: H12 VCCAUX, K12 VCCAUX, M12 VCCAUX, P12 VCCAUX, R11 VCCAUX
part O pins: J11 VCCBRAM, L11 VCCBRAM, N11 VCCBRAM
part P pins: H8 VCCINT, H10 VCCINT, J7 VCCINT, J9 VCCINT, K8 VCCINT, L7 VCCINT, M8 VCCINT, N7 VCCINT, P8 VCCINT, P10 VCCINT, R7 VCCINT, R9 VCCINT, T8 VCCINT, T10 VCCINT
part Q pins: K9 GNDADC_0, K10 VCCADC_0, L9 VREFN_0, L10 VP_0, M9 VN_0, M10 VREFP_0

## XTAL-3.2X1.5
designator X?  >NAME: X1  (hidden comment: XTAL-3.2X1.5)
Low cost SMT crystals, no capacitors included / <p>http://www.ladyada.net/library/eagle</p>; MPN: ABS07-32.768KHZ-T; OC_FARNELL: 2101347; >VALUE: XTAL-3.2X1.5
footprint XTAL3215
pins: P$1, P$2

## XTAL-4-3225
designator Q?  >NAME: Q3  (hidden comment: XTAL-4-3225)
Classic 4-pin 3.2 x 2.5mm crystal; MPN: ABM8G-25.000MHZ-4Y-T3; OC_FARNELL: 2467848; >VALUE: XTAL-4-3225; Gnd: Gnd
footprint NX3225
pins: 1 X1, 2 G2 (power), 3 X2, 4 G1 (power)